# Altium footprint library RUBYCON_XXXPXXXXXXX8X11.5.PcbLib: 1 footprints
Each footprint in its own frame and in the unit in brackets; x right, y up, seen from the top. Pads: shape width x height; smd on the part's side, far side on the other; paste and mask are expansions set on the pad; w line width, h text height; cw(c..) or ccw(c..) is an arc to the next point about the centre after c.
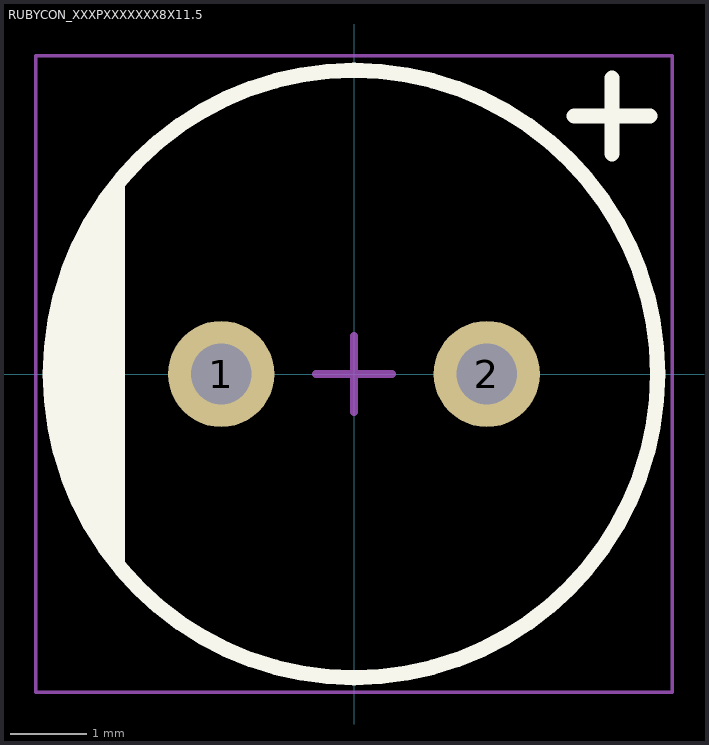
[diagram p0: the footprint, top view; thin cyan lines are the x and y axes]

## RUBYCON_XXXPXXXXXXX8X11.5 [mm]
height 13
pads (2):
  round 1.4 hole 0.8: 1(-1.75,0) 2(1.75,0)
Top Overlay:
  circle w0.2: c0,0 r4
  region: -3.064,-2.571 -3.214,-2.393 -3.47,-2.003 -3.679,-1.587 -3.838,-1.149 -3.946,-0.696 -4,-0.233 -4,0.233 -3.946,0.696 -3.838,1.149 -3.679,1.587 -3.47,2.003 -3.214,2.393 -3.064,2.571
  lines w0.1: -3.064,-2.571 cw(c0,0) -3.064,2.571 -3.064,-2.571
  lines w0.2: 2.9,3.4 3.9,3.4 ; 3.4,2.9 3.4,3.9
Mechanical 13:
  circle w0.1: c0,0 r4
Mechanical 15:
  lines w0.05: -4.191,-4.191 -4.191,4.191 4.191,4.191 4.191,-4.191 -4.191,-4.191
  lines w0.1: -0.5,0 0.5,0 ; 0,-0.5 0,0.5
3D body: height 13, standoff 0, extent -4,-4 4,4